# Altium footprint library SM_3-SMD.PcbLib: 1 footprints
Each footprint in its own frame and in the unit in brackets; x right, y up, seen from the top. Pads: shape width x height; smd on the part's side, far side on the other; paste and mask are expansions set on the pad; w line width, h text height; cw(c..) or ccw(c..) is an arc to the next point about the centre after c.
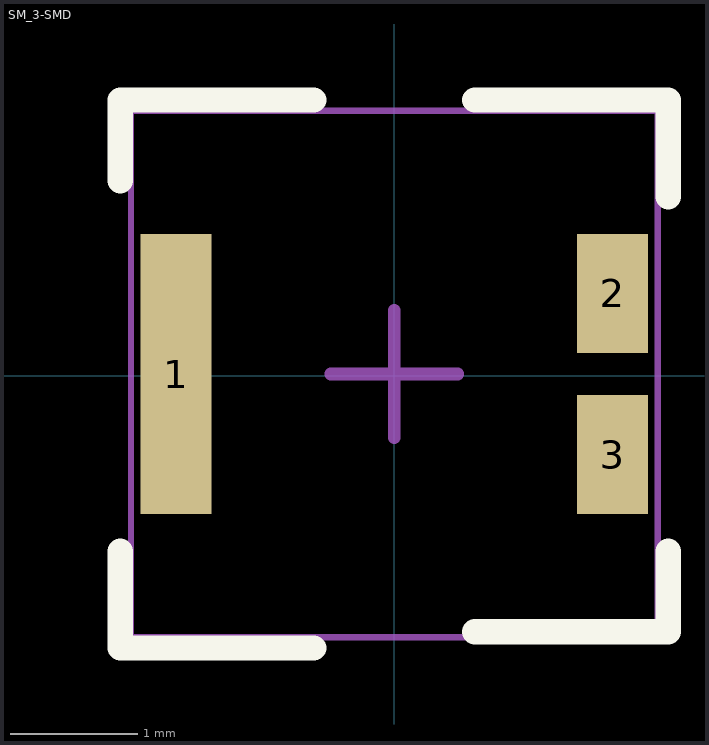
[diagram p0: the footprint, top view; thin cyan lines are the x and y axes]

## SM_3-SMD [mm] "PolyZen"
height 2
pads (3):
  rect 0.56x2.21 smd: 1(-1.72,0.015)
  rect 0.56x0.94 smd: 2(1.72,0.65) 3(1.72,-0.62)
Top Overlay:
  lines w0.2: -2.159,-1.382 -2.159,-2.144 -0.635,-2.144 ; -2.159,1.539 -2.159,2.174 -0.635,2.174 ; 0.635,-2.017 2.159,-2.017 2.159,-1.382 ; 0.635,2.174 2.159,2.174 2.159,1.412
Mechanical 15:
  lines w0.05: -2.075,-2.06 2.075,-2.06 2.075,2.09 -2.075,2.09 -2.075,-2.06
  lines w0.1: -0.5,0.015 0.5,0.015 ; 0,-0.485 0,0.515
3D body: height 2, standoff 0.03, extent -1.905,-1.826 1.905,1.857